# Altium footprint library TwoTerminal.PcbLib: 4 footprints
Each footprint in its own frame and in the unit in brackets; x right, y up, seen from the top. Pads: shape width x height; smd on the part's side, far side on the other; paste and mask are expansions set on the pad; w line width, h text height; cw(c..) or ccw(c..) is an arc to the next point about the centre after c.
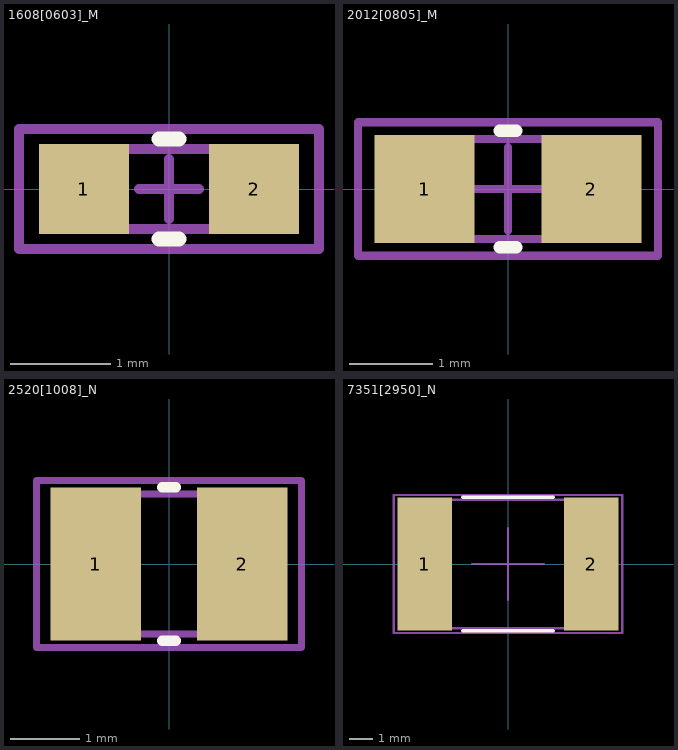
[diagram p0: the footprints below, top view; thin cyan lines are the x and y axes]

## 1608[0603]_M [mm] "Two Terminal Package, Body 1.6x0.8mm, IPC Low Density"
height 0.85
pads (2):
  rect 0.9x0.9 smd: 1(-0.85,0) 2(0.85,0)
Top Overlay:
  lines w0.15: -0.1,-0.5 0.1,-0.5 ; -0.1,0.5 0.1,0.5
Mechanical 13:
  lines w0.1: -0.8,-0.4 0.8,-0.4 0.8,0.4 -0.8,0.4 -0.8,-0.4
Mechanical 15:
  lines w0.1: -0.3,0 0.3,0 ; 0,-0.3 0,0.3 ; -1.5,-0.6 1.5,-0.6 1.5,0.6 -1.5,0.6 -1.5,-0.6
3D body: height 0.85, standoff 0, extent -0.8,-0.4 0.8,0.4

## 2012[0805]_M [mm] "Two Terminal Package, Body 2x1.2mm, IPC Low Density"
height 1.3
pads (2):
  rect 1.2x1.3 smd: 1(-1,0) 2(1,0)
Top Overlay:
  lines w0.15: -0.1,-0.7 0.1,-0.7 ; -0.1,0.7 0.1,0.7
Mechanical 13:
  lines w0.1: -1,-0.6 -1,0.6 1,0.6 1,-0.6 -1,-0.6
Mechanical 15:
  lines w0.1: -0.5,0 0.5,0 ; 0,-0.5 0,0.5 ; -1.8,-0.8 -1.8,0.8 1.8,0.8 1.8,-0.8 -1.8,-0.8
3D body: height 1.3, standoff 0, extent -1,-0.6 1,0.6

## 2520[1008]_N [mm] "Two Terminal Package, Body 2.5x2mm, IPC Medium Density"
height 1.2
pads (2):
  rect 1.3x2.2 smd: 1(-1.05,0) 2(1.05,0)
Top Overlay:
  lines w0.15: -0.1,-1.1 0.1,-1.1 ; -0.1,1.1 0.1,1.1
Mechanical 13:
  lines w0.1: -1.25,1 -1.25,-1 1.25,-1 1.25,1 -1.2,1
Mechanical 15:
  lines w0.1: -1.9,-1.2 -1.9,1.2 1.9,1.2 1.9,-1.2 -1.9,-1.2
3D body: height 1.2, standoff 0, extent -1.25,-1 1.25,1

## 7351[2950]_N [mm] "Two Terminal Package, Body 7.3x5.1mm, IPC Medium Density"
height 0.9
pads (2):
  rect 2.3x5.6 smd: 1(-3.5,0) 2(3.5,0)
Top Overlay:
  lines w0.15: -1.9,-2.8 1.9,-2.8 ; -1.9,2.8 1.9,2.8
Mechanical 13:
  lines w0.1: -4,-2.7 4,-2.7 4,2.7 -4,2.7 -4,-2.7
Mechanical 15:
  lines w0.1: -1.5,0 1.5,0 ; 0,-1.5 0,1.5 ; -4.8,-2.9 4.8,-2.9 4.8,2.9 -4.8,2.9 -4.8,-2.9
3D body: height 0.9, standoff 0, extent -4,-2.7 4,2.7